# EAGLE library part SN74LVC1G332DBVR (library SamacSys_Parts)
Single 3-Input OR Gate SOT23-6 Texas Instruments SN74LVC1G332DBVR, OR 3 input OR, 1.65 5.5 V, 6-Pin SOT-23 Source: Datasheet
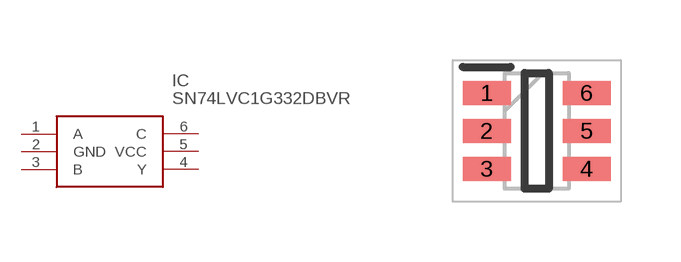
[diagram p122: symbol with the pads of SOT95P280X145-6N; footprint SOT95P280X145-6N]

Designator prefix IC

## SN74LVC1G332DBVR (DESCRIPTION: Single 3-Input OR Gate SOT23-6 Texas Instruments SN74LVC1G332DBVR, OR 3 input OR, 1.65 5.5 V, 6-Pin SOT-23; HEIGHT: 1.45mm; MANUFACTURER_NAME: Texas Instruments; MANUFACTURER_PART_NUMBER: SN74LVC1G332DBVR; MOUSER_PART_NUMBER: 595-SN74LVC1G332DBVR; MOUSER_PRICE-STOCK: https://www.mouser.co.uk/ProductDetail/Texas-Instruments/SN74LVC1G332DBVR?qs=nqigI8dpoHKFELpkzWpY4w%3D%3D)  [SOT95P280X145-6N]
1  A
2  GND
3  B
4  Y
5  VCC
6  C

## Footprint SOT95P280X145-6N (pad centres in mm)
DBV000a
smd 1.2 x 0.6: 1 -1.25,0.95; 2 -1.25,0; 3 -1.25,-0.95; 4 1.25,-0.95; 5 1.25,0; 6 1.25,0.95